# Altium schematic symbol library SP3485EN-L.SchLib: 1 symbol
Pins are listed as number, name and electrical type; pins without a type are passive.

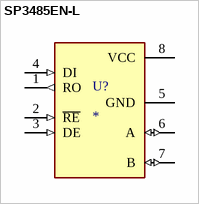
[diagram p0: symbol SP3485EN-L]

## SP3485EN-L
designator U?
1/1 Transceiver Half RS422, RS485 8-SOIC; MF: MaxLinear, Inc.; MP: SP3485EN-L; SnapEDA_Link: https://www.snapeda.com/parts/SP3485EN-L/MaxLinear/view-part/?ref=snap; Package: None; Value: *; Check_prices: https://www.snapeda.com/parts/SP3485EN-L/MaxLinear/view-part/?ref=eda
footprint SOIC127P599X175-8N
pins: 1 RO (out), 2 ~{RE} (in), 3 DE (in), 4 DI (in), 5 GND (power), 6 A (io), 7 B (io), 8 VCC (power)